# Altium schematic symbol library SCH - MCU - ATMEGA - MICROCHIP ATMEGA328PB-AU TQFP32.SchLib: 1 symbol
Pins are listed as number, name and electrical type; pins without a type are passive.

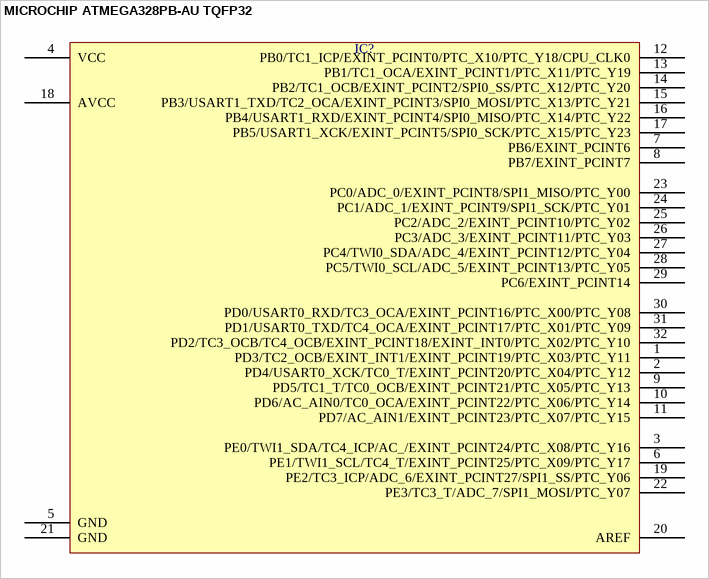
[diagram p0: symbol MICROCHIP ATMEGA328PB-AU TQFP32]

## MICROCHIP ATMEGA328PB-AU TQFP32
designator IC?  (value not drawn)
pins: 1 PD3/TC2_OCB/EXINT_INT1/EXINT_PCINT19/PTC_X03/PTC_Y11, 2 PD4/USART0_XCK/TC0_T/EXINT_PCINT20/PTC_X04/PTC_Y12, 3 PE0/TWI1_SDA/TC4_ICP/AC_/EXINT_PCINT24/PTC_X08/PTC_Y16, 4 VCC, 5 GND, 6 PE1/TWI1_SCL/TC4_T/EXINT_PCINT25/PTC_X09/PTC_Y17, 7 PB6/EXINT_PCINT6, 8 PB7/EXINT_PCINT7, 9 PD5/TC1_T/TC0_OCB/EXINT_PCINT21/PTC_X05/PTC_Y13, 10 PD6/AC_AIN0/TC0_OCA/EXINT_PCINT22/PTC_X06/PTC_Y14, 11 PD7/AC_AIN1/EXINT_PCINT23/PTC_X07/PTC_Y15, 12 PB0/TC1_ICP/EXINT_PCINT0/PTC_X10/PTC_Y18/CPU_CLK0, 13 PB1/TC1_OCA/EXINT_PCINT1/PTC_X11/PTC_Y19, 14 PB2/TC1_OCB/EXINT_PCINT2/SPI0_SS/PTC_X12/PTC_Y20, 15 PB3/USART1_TXD/TC2_OCA/EXINT_PCINT3/SPI0_MOSI/PTC_X13/PTC_Y21, 16 PB4/USART1_RXD/EXINT_PCINT4/SPI0_MISO/PTC_X14/PTC_Y22, 17 PB5/USART1_XCK/EXINT_PCINT5/SPI0_SCK/PTC_X15/PTC_Y23, 18 AVCC, 19 PE2/TC3_ICP/ADC_6/EXINT_PCINT27/SPI1_SS/PTC_Y06, 20 AREF, 21 GND, 22 PE3/TC3_T/ADC_7/SPI1_MOSI/PTC_Y07, 23 PC0/ADC_0/EXINT_PCINT8/SPI1_MISO/PTC_Y00, 24 PC1/ADC_1/EXINT_PCINT9/SPI1_SCK/PTC_Y01, 25 PC2/ADC_2/EXINT_PCINT10/PTC_Y02, 26 PC3/ADC_3/EXINT_PCINT11/PTC_Y03, 27 PC4/TWI0_SDA/ADC_4/EXINT_PCINT12/PTC_Y04, 28 PC5/TWI0_SCL/ADC_5/EXINT_PCINT13/PTC_Y05, 29 PC6/EXINT_PCINT14, 30 PD0/USART0_RXD/TC3_OCA/EXINT_PCINT16/PTC_X00/PTC_Y08, 31 PD1/USART0_TXD/TC4_OCA/EXINT_PCINT17/PTC_X01/PTC_Y09, 32 PD2/TC3_OCB/TC4_OCB/EXINT_PCINT18/EXINT_INT0/PTC_X02/PTC_Y10